# Altium schematic symbol library INA180B3IDBVR.SchLib: 1 symbol
Pins are listed as number, name and electrical type; pins without a type are passive.

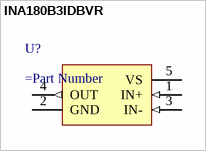
[diagram p0: symbol INA180B3IDBVR]

## INA180B3IDBVR
designator U?
=Description
pins: 1 IN+ (in), 2 GND (power), 3 IN- (in), 4 OUT (out), 5 VS (power)